# Altium schematic symbol library Schlib1.SchLib: 1 symbol
Pins are listed as number, name and electrical type; pins without a type are passive.

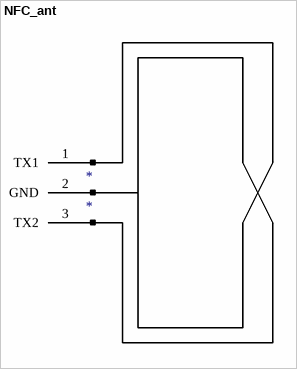
[diagram p0: symbol NFC_ant]

## NFC_ant
designator *
footprint PCBComponent_1
pins: 1 TX1, 2 GND, 3 TX2